# EAGLE library part OPA695 (library NewSDR)
Texas Instruments Ultra Wideband, Current-Feedback Operational Amplifier with Disable
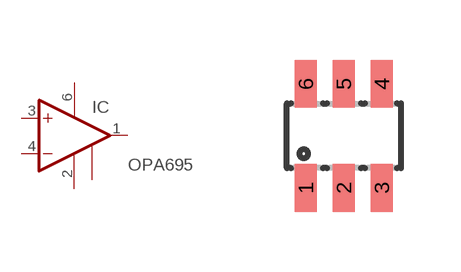
[diagram p26: symbol with the pads of SOT23-6L; footprint SOT23-6L]

Designator prefix IC

## OPA695DBVT  [SOT23-6L]
1  OUT  out
2  V-  pwr
3  +IN  in
4  -IN  in
5  /DIS  in
6  V+  pwr

## Footprint SOT23-6L (pad centres in mm)
Small Outline Transistor
smd 0.55 x 1.2: 1 -0.95,-1.3; 2 0,-1.3; 3 0.95,-1.3; 4 0.95,1.3; 5 0,1.3; 6 -0.95,1.3